# Altium integrated library B220_BMD-350_carrier_mid.IntLib: 12 symbols
Pins are listed as number, name and electrical type; pins without a type are passive.

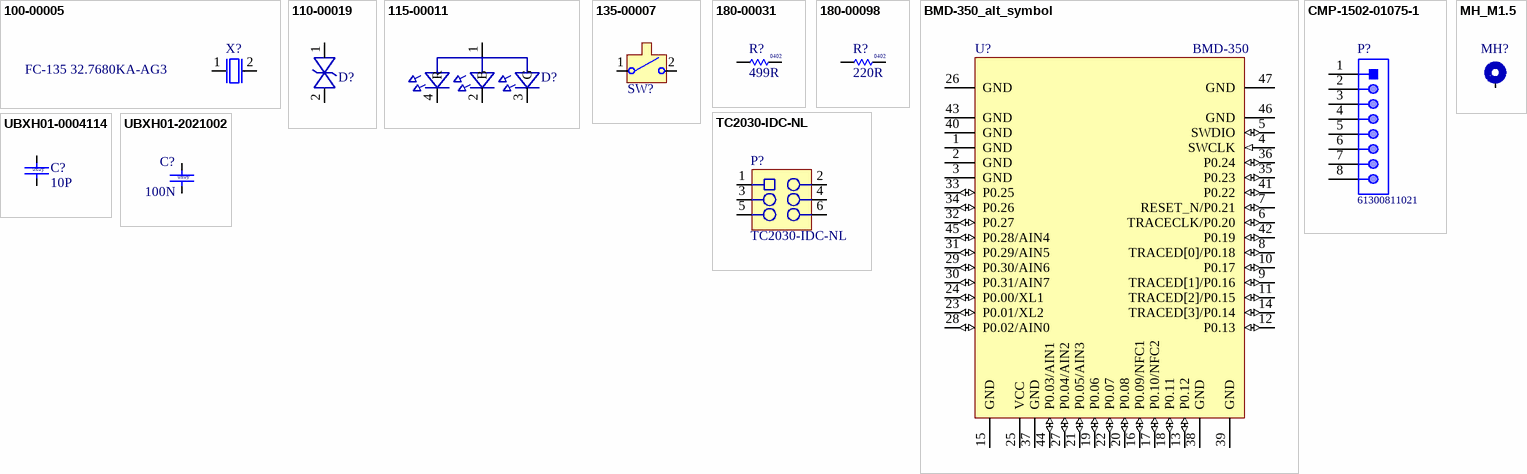
[diagram p0: symbols 100-00005 to UBXH01-2021002]

## 100-00005
designator X?  Manufacturer P/N: FC-135 32.7680KA-AG3
XTAL, 2Pin, 32.768kHz, 7pF 20ppm; Part Number: 100-00005; Part Name: XTAL 32.768kHz 7pF 20ppm 3215; Part_Type: Crystal/Oscillator; Manufacturer: Epson; Item_Phase: Production; Body Size: 3.2mm x 1.5mm; Component Mounting Type: SMT; MFG Package: 2-SMD; Use in new designs: Yes; Revision: 0C; Supplier 1: Digi-Key; Supplier Part Number 1: SER4086CT-ND; Manufacturer 2: AVX Corporation; Manufacturer P/N 2: ST3215SB32768C0HPWBB; Supplier 2: Digi-Key; Supplier Part Number 2: 1253-1113-1-ND; Arena Link: https://app.bom.com/a/L3MU07Q7Q98O5PC8?v=spec.summary; CL: 7pF; Frequency: 32.768kHz; Frequency Tolerance: 20ppm; Height: 0.9mm; Pins: 2
footprint XTAL_3215
pins: 1, 2

## 110-00019
designator D?
Diode, ESD9B, 3.3V, ST5G, SOD-923; Part Number: 110-00019; Part Name: Diode TVS 3.3V SOD-923; Manufacturer: ON Semiconductor; Manufacturer P/N: ESD9B3.3ST5G; Item_Phase: Production; Body Size: 0.8mm x 0.6mm; Component Mounting Type: SMT; Diode Type: TVS; Use in new designs: Yes; Part_Type: Diode; Revision: 0A; Supplier 1: Arrow; Supplier Part Number 1: ESD9B3.3ST5G; Arena Link: https://app.bom.com/a/4M5DJQ9Q9SR7DV4H?v=spec.summary; Height: 0.4mm; MFG Package: SOD-923; Package Type: SOD; Pins: 2; Voltage: 3.3V
footprint SOD-923
pins: 1, 2

## 115-00011
designator D?
LED, RGB Diffused SMT, PLCC4 4 Pin; Part Number: 115-00011; Part Name: LED RGB SMT 2mm x 2mm; Manufacturer: Cree, Inc.; Manufacturer P/N: CLMVB-FKA-CFHEHLCBB7a363; Item_Phase: Production; Body Size: 2.0mm x 2.0mm; Current: 20mA Red, 10mA Green, 10mA, Blue; Number of Circuits: 3; Use in new designs: Yes; Vf: 2V Red, 3V Green, 3V Blue; Voltage: 5V; Part_Type: LED; Revision: 0A; Supplier 1: Mouser; Supplier Part Number 1: 941-CLMVBFKACFHEHLCB; Arena Link: https://app.bom.com/a/UCV39GZGZIHY581D?v=spec.summary; Color: RGB; Component Mounting Type: SMT; Height: 1mm; MFG Package: PLCC4; Mounting Type: Vertical; Package Type: Custom; Pins: 4
footprint 4-PLCC
pins: 1 A, 2 B, 3 G, 4 R

## 135-00007
designator SW?
Button, Momentary SPST-NO, 0.05A, 12V, 3mm x 2.5mm; Part Number: 135-00007; Part Name: SWITCH TACTILE SPST-NO 0.05A 12V; Manufacturer: Omron Electronics Inc-EMC Div; Manufacturer P/N: B3U-1000P; Item_Phase: Production; Component Mounting Type: SMT; Current: 50mA; Switch/Button Circuit: SPST; Switch/Button Function: Off-Mom; Use in new designs: Yes; Voltage: 12VDC; Part_Type: Button; Revision: 0A; Supplier 1: Digi-Key; Supplier Part Number 1: SW1020CT-ND; Arena Link: https://app.bom.com/a/TBU28FYFYHGV5FQ0?v=spec.summary; Body Size: 3mm x 2.5mm; Height: 1.2mm; Pins: 2
footprint B3U-1000P
pins: 1, 2

## 180-00031
designator R?  value 499R  Size: 0402
Resistor, 499ohm, 1%, 1/16W, 0402; Part Number: 180-00031; Part Name: RES SMD 499 OHM 1% 1/16W 0402; Manufacturer: Rohm Semiconductor; Manufacturer P/N: MCR01MRTF4990; Item_Phase: Production; Component Mounting Type: SMT; Tolerance: +/- 1%; Use in new designs: Yes; Part_Type: Resistor; Supplier 1: Digi-Key; Supplier Part Number 1: RHM499CDCT-ND; Manufacturer 2: Samsung Electro-Mechanics America, Inc; Manufacturer P/N 2: RC1005F4990CS; Arena Link: https://app.bom.com/a/Q8RZ5CVCVEDU1SS5?v=spec.summary; Height: 0.4mm; Pins: 2; Power: 1/16W; Revision: 0D; Supplier 2: Digi-Key; Supplier Part Number 2: 1276-3992-1-ND; Alternate Footprint Ref: RES 0402
simulation model RESISTOR (Resistor)
signal-integrity model Res
footprint RES 0402 HD
pins: 1, 2

## 180-00098
designator R?  value 220R  Size: 0402
Resistor, 220ohm, 5%, 1/16W, 0402.; Part Number: 180-00098; Part Name: RES SMD 220 OHM 5% 1/16W 0402; Manufacturer: Panasonic Electronic Components; Manufacturer P/N: ERJ-2GEJ221X; Item_Phase: Production; Component Mounting Type: SMT; Tolerance: +/- 5%; Use in new designs: Yes; Part_Type: Resistor; Supplier 1: Digi-Key; Supplier Part Number 1: P220JCT-ND; Arena Link: https://app.bom.com/a/8Q9HNUDUDWVBJC30?v=spec.summary; Pins: 2; Power: 1/16W; Revision: 0C; Manufacturer 2: Samsung Electro-Mechanics America, Inc; Manufacturer P/N 2: RC1005J221CS; Supplier 2: Digi-Key; Supplier Part Number 2: 1276-4360-1-ND; Alternate Footprint Ref: RES 0402; Height: 0.4mm
simulation model RESISTOR (Resistor)
signal-integrity model Res
footprint RES 0402 HD
pins: 1, 2

## BMD-350_alt_symbol
designator U?  Part Number: BMD-350
u-blox BMD-350 Bluetooth 5 module; Manufacturer P/N: BMD-350-A-R; Internal Antenna: CHIP; Protocol: BT 5 LE, 2.4GHz Proprietary; Body Size: 8.65mm x 6.4mm; Height: 1.5mm; Manufacturer: u-blox
footprint BMD_LGA47S_865X640X150_CHIP (LGA, 47pin, 0.8mm Pitch, 8.65mm x 6.4mm)
pins: 1 GND (power), 2 GND (power), 3 GND (power), 4 SWCLK (in), 5 SWDIO (io), 6 TRACECLK/P0.20 (io), 7 RESET_N/P0.21 (io), 8 TRACED[0]/P0.18 (io), 9 TRACED[1]/P0.16 (io), 10 P0.17 (io), 11 TRACED[2]/P0.15 (io), 12 P0.13 (io), 13 P0.12 (io), 14 TRACED[3]/P0.14 (io), 15 GND (power), 16 P0.09/NFC1 (io), 17 P0.10/NFC2 (io), 18 P0.11 (io), 19 P0.06 (io), 20 P0.08 (io), 21 P0.05/AIN3 (io), 22 P0.07 (io), 23 P0.01/XL2 (io), 24 P0.00/XL1 (io), 25 VCC (power), 26 GND (power), 27 P0.04/AIN2 (io), 28 P0.02/AIN0 (io), 29 P0.30/AIN6 (io), 30 P0.31/AIN7 (io), 31 P0.29/AIN5 (io), 32 P0.27 (io), 33 P0.25 (io), 34 P0.26 (io), 35 P0.23 (io), 36 P0.24 (io), 37 GND (power), 38 GND (power), 39 GND (power), 40 GND (power), 41 P0.22 (io), 42 P0.19 (io), 43 GND (power), 44 P0.03/AIN1 (io), 45 P0.28/AIN4 (io), 46 GND (power), 47 GND (power)

## CMP-1502-01075-1
designator P?, comment 61300811021
THT Angled Pin Header WR-PHD, Pitch 2.54 mm, Single Row, 8 pins; Manufacturer: Wurth Electronics; Pin Number: 8; Rated Current: 3A; Working Voltage: 250VAC; Withstanding Voltage: 500VAC; Gender: Male; Contact Resistance: 20mOhm; Pitch: 2.54mm; Part Number: 61300811021; Publisher: WurthElektronik; Manufacturer URL: http://www.we-online.de; Row Number: Single; Datasheet URL: https://katalog.we-online.de/em/datasheet/6130xx11021.pdf; Orientation: Angled; Operating Temperature: -40to105degC; Mounting Technology: THT; Package Reference: 61300811021; Packaging: Bag; Manufacturer Part Number: 61300811021
footprint 61300811021 (Pin Header, pitch 2.54 mm, THT, Angled, single row, 8p)
pins: 1, 2, 3, 4, 5, 6, 7, 8

## MH_M1.5
designator MH?, comment MH_M1.5DNP  (value not drawn)
1.5M screw mounting hole, plated; Added By: Jeremy D; Part Number: MH_M1.5; Size: 3.4mm x 3.4mm; Height: 0mm; Type: Mounting Hole; DNP: DNP; Added Date: 7/9/2015
footprint MH_M1.5
pins: 1

## TC2030-IDC-NL
designator P?, comment Manufacturer P/N: TC2030-IDC-NL  (hidden comment: TC2030-IDC-NLDNP)
CON PADS FOR CBL PLUG-OF-NAILS 6-PIN NO LEGS; Manufacturer: TAG Connect; Added By: Paul B; Part Number: TC2030-IDC-NL; Size: 6.731mm x 12.446mm; Height: 0; DNP: DNP; Added Date: 4/22/2015
footprint TC2030-IDC-NL
pins: 1, 2, 3, 4, 5, 6

## UBXH01-0004114
designator C?  value 10P  Size: 0x0y
CAP CER COG 0402; Part Number: UBXH01-0004114; Manufacturer: Murata Manufacturing Company, Ltd.; Manufacturer P/N: GRM1555C1H100CZ01; Tolerance: 5%; Max Voltage: 25.0V; Max Current: None; Editor: martin.frauchiger; Env: ROHS; Permitted Use: Volume Products; Perferred: PREF; Mfg P/N Status: Obsolete; Mfg P/N Split: 0; Mfg P/N Released: Yes; Max Power: None; Min Operating Temp: None; Max Operating Temp: None; Part Type: Capacitor; Released by: martin.frauchiger; Release Data: 2005-09-01 15:36:53; Single Source: None; Automotive: None; Critical: None; UBX Wiki: https://wiki.u-blox.com/bin/view/Operations/PartDetails?index=5225; RefDes: C; Mfg P/N Datasheet: None; Manufacturer 2: None; Manufacturer P/N 2: None; Mfg P/N Status 2: None; Mfg P/N Split 2: None; Mfg P/N Released 2: None; Mfg P/N Datasheet 2: None; Manufacturer 3: None; Manufacturer P/N 3: None; Mfg P/N Status 3: None; Mfg P/N Split 3: None; Mfg P/N Released 3: None; Mfg P/N Datasheet 3: None
simulation model CAP (Semiconductor Capacitor)
signal-integrity model Cap Semi
footprint Cap 0402
footprint Cap 0402 HD
pins: 1, 2

## UBXH01-2021002
designator C?  value 100N  Size: 0x0y
CAP CER X5R 0402; Part Number: UBXH01-2021002; Manufacturer: Samsung Electro-Mechanics; Manufacturer P/N: CL05A104KP5NNN; Tolerance: 10%; Max Voltage: 10.0V; Max Current: None; Editor: roland.rust; Env: GREEN; Permitted Use: Volume Products; Perferred: PREF; Mfg P/N Status: Active; Mfg P/N Split: 0; Mfg P/N Released: Yes; Max Power: None; Min Operating Temp: None; Max Operating Temp: None; Part Type: Capacitor; Released by: roland.rust; Release Data: 2005-07-22 13:59:44; Single Source: None; Automotive: None; Critical: None; UBX Wiki: https://wiki.u-blox.com/bin/view/Operations/PartDetails?index=5759; RefDes: C; Mfg P/N Datasheet: https://wiki.u-blox.com/bin/view/Generic/Docs/DocumentSummary?index=28113; Manufacturer 2: None; Manufacturer P/N 2: None; Mfg P/N Status 2: None; Mfg P/N Split 2: None; Mfg P/N Released 2: None; Mfg P/N Datasheet 2: None; Manufacturer 3: None; Manufacturer P/N 3: None; Mfg P/N Status 3: None; Mfg P/N Split 3: None; Mfg P/N Released 3: None; Mfg P/N Datasheet 3: None
simulation model CAP (Semiconductor Capacitor)
signal-integrity model Cap Semi
footprint Cap 0402
footprint Cap 0402 HD
pins: 1, 2